# Altium footprint library Linelance_footprints.PcbLib: 13 footprints
Each footprint in its own frame and in the unit in brackets; x right, y up, seen from the top. Pads: shape width x height; smd on the part's side, far side on the other; paste and mask are expansions set on the pad; w line width, h text height; cw(c..) or ccw(c..) is an arc to the next point about the centre after c.
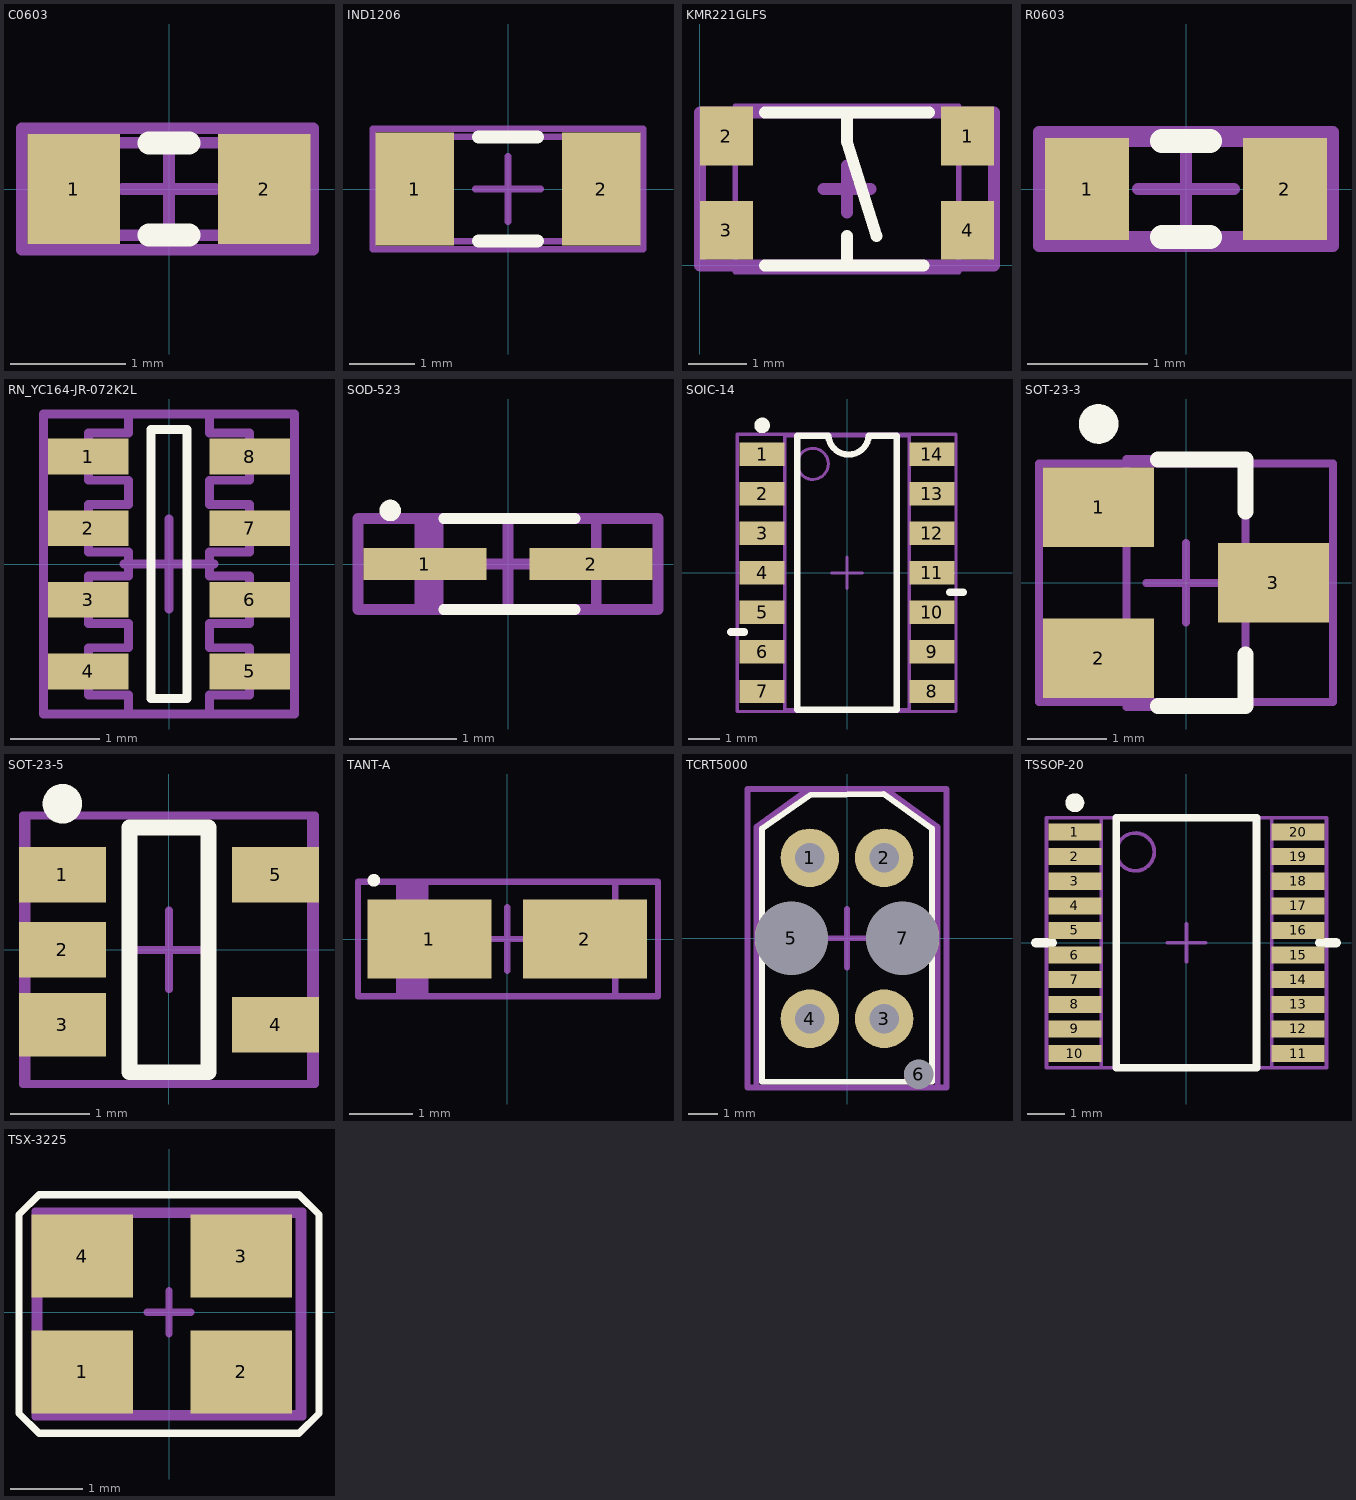
[diagram p0: the footprints below, top view; thin cyan lines are the x and y axes]

## C0603 [mm]
height 0.5
pads (2):
  rect 0.8x0.95 smd: 1(-0.825,0) 2(0.825,0)
Top Overlay:
  lines w0.2: -0.175,-0.4 0.175,-0.4 ; -0.175,0.4 0.175,0.4
Top Assy:
  lines w0.1: -0.8,-0.4 -0.8,0.4 0.8,0.4 0.8,-0.4 -0.8,-0.4
Mechanical 15:
  lines w0.1: -0.4,0 0.4,0 ; 0,-0.35 0,0.45 ; -1.275,-0.525 -1.275,0.525 1.25,0.525 1.25,-0.525 -1.275,-0.525
3D body: height 0.5, standoff 0, extent -0.5,-0.4 0.5,0.4
3D body: height 0.5, standoff 0, extent -0.8,-0.4 -0.5,0.4
3D body: height 0.5, standoff 0, extent 0.5,-0.4 0.8,0.4

## IND1206 [mm]
height 1.8
pads (2):
  rect 1.2x1.74 smd: 1(-1.43,0) 2(1.43,0)
Top Overlay:
  lines w0.2: -0.45,-0.8 0.45,-0.8 ; -0.45,0.8 0.45,0.8
Top Assy:
  lines w0.1: -1.6,-0.8 -1.6,0.8 1.6,0.8 1.6,-0.8 -1.6,-0.8
Mechanical 15:
  lines w0.1: -0.5,0 0.5,0 ; 0,-0.5 0,0.5 ; -2.075,-0.925 -2.075,0.925 2.075,0.925 2.075,-0.925 -2.075,-0.925
3D body "IND1206.step": height 1.8, standoff 0, extent -1.6,-0.8 1.6,0.8

## KMR221GLFS [mm]
pads (4):
  rect 0.9x1 smd mask+0.102: 1(4.55,2.2)
  rect 0.9x1 smd: 2(0.45,2.2) 3(0.45,0.6) 4(4.55,0.6)
Top Overlay:
  lines w0.2: 1.1,0 3.8,0 ; 1.1,2.6 3.9,2.6 ; 2.5,0 2.5,0.5 ; 2.5,2.6 2.5,2.1 3,0.5
Top Assy:
  lines w0.1: 0.6,-0.1 4.4,-0.1 4.4,2.7 0.6,2.7 0.6,-0.1
Mechanical 15:
  lines w0.2: 2.1,1.3 2.9,1.3 ; 2.5,0.9 2.5,1.7 ; 0,0 0,2.6 5,2.6 5,0 0,0
3D body "KMR221GLFS.stp": height 1.92, standoff -0.02, extent 0.2,-0.1 4.8,2.7

## R0603 [mm]
height 0.5
pads (2):
  rect 0.7x0.85 smd: 1(-0.825,0) 2(0.825,0)
Top Overlay:
  lines w0.2: -0.2,-0.4 0.2,-0.4 ; -0.2,0.4 0.2,0.4
Top Assy:
  lines w0.1: -0.8,-0.4 0.8,-0.4 0.8,0.4 -0.8,0.4 -0.8,-0.4
Mechanical 15:
  lines w0.1: -0.4,0 0.4,0 ; 0,-0.4 0,0.4 ; -1.225,-0.475 1.225,-0.475 1.225,0.475 -1.225,0.475 -1.225,-0.475
3D body "R0603.step": height 0.5, standoff 0, extent -0.8,-0.4 0.8,0.4

## RN_YC164-JR-072K2L [mm] "Chip Array, ConvexE, 8-Leads, Pitch 0,80mm,  Body 3,20x1,60mm,  IPC Medium Density"
height 0.7
pads (8):
  rect 0.9x0.4 smd: 1(-0.9,1.2) 2(-0.9,0.4) 3(-0.9,-0.4) 4(-0.9,-1.2) 5(0.9,-1.2) 6(0.9,-0.4) 7(0.9,0.4) 8(0.9,1.2)
Top Overlay:
  lines w0.1: -0.2,-1.5 0.2,-1.5 0.2,1.5 -0.2,1.5 -0.2,-1.5
Top Assy:
  lines w0.1: -0.9,-1.465 -0.9,-0.935 -0.45,-0.935 -0.45,-0.665 -0.9,-0.665 -0.9,-0.135 -0.45,-0.135 -0.45,0.135 -0.9,0.135 -0.9,0.665 -0.45,0.665 -0.45,0.935 -0.9,0.935 -0.9,1.465 -0.45,1.465 -0.45,1.675 0.45,1.675 0.45,1.465 0.9,1.465 0.9,0.935 0.45,0.935 0.45,0.665 0.9,0.665 0.9,0.135 0.45,0.135 0.45,-0.135 0.9,-0.135 0.9,-0.665 0.45,-0.665 0.45,-0.935 0.9,-0.935 0.9,-1.465 0.45,-1.465 0.45,-1.675 -0.45,-1.675 -0.45,-1.465 -0.9,-1.465
Mechanical 15:
  lines w0.1: -0.5,0 0.5,0 ; 0,-0.5 0,0.5 ; -1.4,-1.675 -1.4,1.675 1.4,1.675 1.4,-1.675 -1.4,-1.675
3D body "RN_YC164-JR-072K2L.step": height 0.7, standoff 0, extent -0.925,-1.675 0.925,1.675

## SOD-523 [mm]
height 0.65
pads (2):
  rect 1.15x0.3 smd: 1(-0.775,0) 2(0.775,0)
Top Overlay:
  circle w0.1: c-1.1,0.5 r0.05
  lines w0.1: -0.6,-0.425 0.625,-0.425 ; -0.6,0.425 0.625,0.425
Top Assy:
  rectangle: -0.825,-0.425 -0.603,0.425
  lines w0.1: -0.825,-0.425 -0.825,0.425 0.825,0.425 0.825,-0.425 -0.825,-0.425
Mechanical 15:
  lines w0.1: -0.425,0 0.425,0 ; 0,-0.425 0,0.425 ; -1.4,-0.425 1.4,-0.425 1.4,0.425 -1.4,0.425 -1.4,-0.425
3D body "SOD523.step": height 0.7, standoff 0, extent -0.85,-0.45 0.85,0.45

## SOIC-14 [mm] "SOIC, 14-Leads, Body 7,15x3,90mm, Pitch 1,27mm, IPC Medium Density"
height 1.75
pads (14):
  rect 1.45x0.75 smd: 1(-2.725,3.81) 2(-2.725,2.54) 3(-2.725,1.27) 4(-2.725,0) 5(-2.725,-1.27) 6(-2.725,-2.54) 7(-2.725,-3.81) 8(2.725,-3.81) 9(2.725,-2.54) 10(2.725,-1.27) 11(2.725,0) 12(2.725,1.27) 13(2.725,2.54) 14(2.725,3.81)
Top Overlay:
  circle w0.25: c-2.725,4.735 r0.125
  lines w0.2: -1.6,-4.4 1.6,-4.4 1.6,4.4 0.7,4.4 cw(c0.05,4.45) -0.6,4.4 -1.6,4.4 -1.6,-4.4
  lines w0.254: -3.725,-1.9 -3.3,-1.9 ; 3.3,-0.625 3.725,-0.625
Top Assy:
  circle w0.1: c-1.1,3.5 r0.5
  lines w0.1: -2,-4.4 2,-4.4 2,4.4 -2,4.4 -2,-4.4
Mechanical 15:
  lines w0.1: -0.5,0 0.5,0 ; 0,-0.5 0,0.5 ; -3.525,-4.45 3.5,-4.45 3.5,4.45 -3.525,4.45 -3.525,-4.45
3D body "LM3900.step": height 1.75, standoff 0, extent -3,-4.4 3,4.4

## SOT-23-3 [mm]
height 1.2
pads (3):
  rect 1.4x1 smd: 1(-1.1,0.95) 2(-1.1,-0.95) 3(1.1,0)
Top Overlay:
  circle w0.25: c-1.1,2 r0.125
  lines w0.2: -0.35,-1.55 0.75,-1.55 0.75,-0.9 ; -0.35,1.55 0.75,1.55 0.75,0.9
Top Assy:
  lines w0.1: -0.75,-1.56 0.75,-1.56 0.75,1.56 -0.75,1.56 -0.75,-1.56
Mechanical 15:
  lines w0.1: -0.5,0 0.5,0 ; 0,-0.5 0,0.5 ; -1.85,-1.5 -1.85,1.5 1.85,1.5 1.85,-1.5 -1.85,-1.5
3D body "SOT23-3.stp": height 1, standoff 0, extent -1.05,-1.5 1.25,1.4

## SOT-23-5 [mm] "SOT23, 5-Leads, Body 2,90x2,80mm, Pitch 0,95mm, IPC High Density"
height 1.45
pads (5):
  rect 1.1x0.7 smd: 1(-1.347,0.951) 2(-1.347,0.001) 4(1.353,-0.949) 5(1.353,0.951)
  rect 1.1x0.8 smd: 3(-1.347,-0.949)
Top Overlay:
  circle w0.25: c-1.347,1.851 r0.125
  lines w0.2: -0.497,-1.549 -0.497,1.551 0.503,1.551 0.503,-1.549 -0.497,-1.549
Top Assy:
  lines w0.1: -1.8,-1.7 1.8,-1.7 1.8,1.7 -1.8,1.7 -1.8,-1.7
Mechanical 15:
  lines w0.1: -0.497,0.001 0.503,0.001 ; 0.003,-0.499 0.003,0.501 ; -1.85,-1.7 1.85,-1.7 1.85,1.7 -1.85,1.7 -1.85,-1.7
3D body "SOT23-5.STEP": height 1.09, standoff -0.01, extent -1.25,-1.525 1.25,1.475

## TANT-A [mm]
pads (2):
  rect 1.95x1.25 smd: 1(-1.225,0) 2(1.225,0)
Top Overlay:
  circle w0.1: c-2.1,0.925 r0.05
Top Assy:
  rectangle: -1.7,-0.9 -1.243,0.9
  lines w0.1: -1.7,-0.9 1.7,-0.9 1.7,0.9 -1.7,0.9 -1.7,-0.9
Mechanical 15:
  lines w0.1: -0.5,0 0.5,0 ; 0,-0.5 0,0.5 ; -2.35,-0.9 2.375,-0.9 2.375,0.9 -2.35,0.9 -2.35,-0.9
3D body "TANT-A.step": height 1.8, standoff -0.04, extent -2.385,-0.902 2.41,0.902

## TCRT5000 [mm]
pads (7):
  round 2 hole 1: 1(-1.27,2.75) 2(1.27,2.75) 3(1.27,-2.75) 4(-1.27,-2.75)
  round 2.5 hole 2.5: 5(-1.9,0) 7(1.9,0)
  round 1 hole 1: 6(2.45,-4.65)
Top Overlay:
  lines w0.2: -2.9,-4.9 2.9,-4.9 2.9,3.75 1.25,4.925 -1.25,4.9 -2.9,3.75 -2.9,-4.9
Top Assy:
  lines w0.2: -3.1,-5.1 3.1,-5.1 3.1,3.8 1.3,5.1 -1.3,5.1 -3.1,3.8 -3.1,3.3 -3.1,-5.1
Mechanical 15:
  lines w0.2: -1,0 1,0 ; 0,-1 0,1 ; -3.4,-5.1 3.4,-5.1 3.4,5.1 -3.4,5.1 -3.4,-5.1
3D body "TCRT5000.stp": height 7.02, standoff -3.5, extent -3.5,-5.1 3.5,5.1

## TSSOP-20 [mm]
pads (20):
  rect 1.4x0.45 smd: 1(-2.95,2.925) 2(-2.95,2.275) 3(-2.95,1.625) 4(-2.95,0.975) 5(-2.95,0.325) 6(-2.95,-0.325) 7(-2.95,-0.975) 8(-2.95,-1.625) 9(-2.95,-2.275) 10(-2.95,-2.925) 11(2.95,-2.925) 12(2.95,-2.275) 13(2.95,-1.625) 14(2.95,-0.975) 15(2.95,-0.325) 16(2.95,0.325) 17(2.95,0.975) 18(2.95,1.625) 19(2.95,2.275) 20(2.95,2.925)
Top Overlay:
  circle w0.25: c-2.95,3.7 r0.125
  lines w0.2: -1.85,-3.3 -1.85,3.3 1.85,3.3 1.85,-3.3 -1.85,-3.3
  lines w0.254: -3.975,0 -3.55,0 ; 3.524,0.001 3.949,0.001
Top Assy:
  circle w0.1: c-1.35,2.4 r0.5
  lines w0.1: -2.25,-3.3 -2.25,3.3 2.25,3.3 2.25,-3.3 -2.25,-3.3
Mechanical 15:
  lines w0.1: -0.5,0 0.5,0 ; 0,-0.5 0,0.5 ; -3.7,-3.3 -3.7,3.3 3.7,3.3 3.7,-3.3 -3.7,-3.3
3D body "TSSOP-20.stp": height 1.1, standoff 0, extent -3.2,-3.25 3.2,3.25

## TSX-3225 [mm] "Crystal"
pads (4):
  rect 1.4x1.15 smd: 1(-1.2,-0.825) 2(1,-0.825) 3(1,0.775) 4(-1.2,0.775)
Top Overlay:
  lines w0.1: -2.075,-1.4 -1.8,-1.675 1.8,-1.675 2.075,-1.4 2.075,1.35 1.8,1.625 -1.8,1.625 -2.075,1.35 -2.075,-1.4
Top Assy:
  lines w0.1: -1.8,-1.4 -1.8,1.35 1.8,1.35 1.8,-1.4 -1.8,-1.4
Mechanical 15:
  lines w0.1: -0.3,0 0.3,0 ; 0,-0.3 0,0.3 ; -1.85,-1.45 1.85,-1.45 1.85,1.4 -1.85,1.4 -1.85,-1.45
3D body "TSX-3225.step": height 0.6, standoff 0, extent -1.55,-1.3 1.65,1.2